# EAGLE library part ZH_6P (library user_conector)
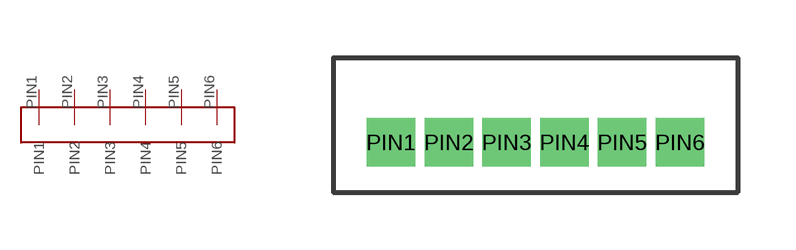
[diagram p1: symbol with the pads of ZH_6P; footprint ZH_6P]

Designator prefix -

## ZH_6P  [ZH_6P]
PIN1  PIN1
PIN2  PIN2
PIN3  PIN3
PIN4  PIN4
PIN5  PIN5
PIN6  PIN6

## Footprint ZH_6P (pad centres in mm)
drill 0.75 square: PIN1 1.5,0; PIN2 3,0; PIN3 4.5,0; PIN4 6,0; PIN5 7.5,0; PIN6 9,0